# EAGLE library part BQ25895 (library BQ25895)
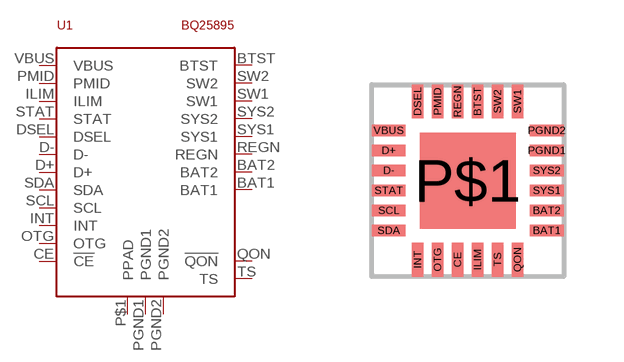
[diagram p0: symbol with the pads of QFN24; footprint QFN24]

Designator prefix -

## BQ25895QFN24  [QFN24]
BAT1  BAT1
BAT2  BAT2
BTST  BTST
CE  !CE
D+  D+
D-  D-
DSEL  DSEL
ILIM  ILIM
INT  INT
OTG  OTG
P$1  PPAD
PGND1  PGND1
PGND2  PGND2
PMID  PMID
QON  !QON
REGN  REGN
SCL  SCL
SDA  SDA
STAT  STAT
SW1  SW1
SW2  SW2
SYS1  SYS1
SYS2  SYS2
TS  TS
VBUS  VBUS  pwr

## Footprint QFN24 (pad centres in mm)
QFN 4x4 mm Source: http://www.hittite.com/product_info/product_specs/dividersdetectors/hmc394lp4.pdf
smd 0.85 x 0.28: BAT1 1.975,-1.25; BAT2 1.975,-0.75; D+ -1.975,0.75; D- -1.975,0.25; PGND1 1.975,0.75; PGND2 1.975,1.25; SCL -1.975,-0.75; SDA -1.975,-1.25; STAT -1.975,-0.25; SYS1 1.975,-0.25; SYS2 1.975,0.25; VBUS -1.975,1.25
smd 0.28 x 0.85: BTST 0.25,1.975; CE -0.25,-1.975; DSEL -1.25,1.975; ILIM 0.25,-1.975; INT -1.25,-1.975; OTG -0.75,-1.975; PMID -0.75,1.975; QON 1.25,-1.975; REGN -0.25,1.975; SW1 1.25,1.975; SW2 0.75,1.975; TS 0.75,-1.975
smd 2.4 x 2.4: P$1 0,0